# EAGLE library part SN74V293 (library epic)
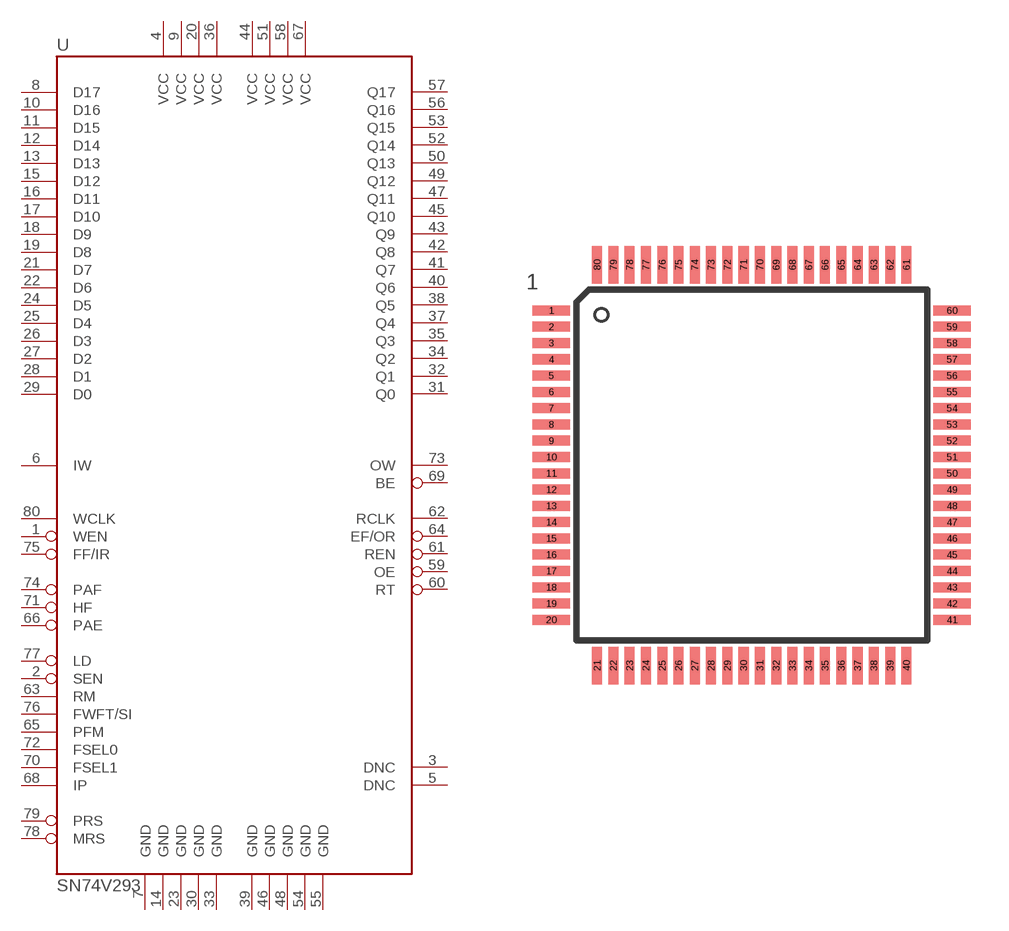
[diagram p6: symbol with the pads of TQFP-80-0.65MM; footprint TQFP-80-0.65MM]

Designator prefix U

## SN74V293  [TQFP-80-0.65MM]
1  WEN  in
2  SEN  in
3  DNC  nc
4  VCC  pas
5  DNC  nc
6  IW  in
7  GND  pwr
8  D17  pas
9  VCC  pas
10  D16  pas
11  D15  pas
12  D14  pas
13  D13  pas
14  GND  pwr
15  D12  pas
16  D11  pas
17  D10  pas
18  D9  pas
19  D8  pas
20  VCC  pas
21  D7  pas
22  D6  pas
23  GND  pwr
24  D5  pas
25  D4  pas
26  D3  pas
27  D2  pas
28  D1  pas
29  D0  pas
30  GND  pwr
31  Q0  out
32  Q1  out
33  GND  pwr
34  Q2  out
35  Q3  out
36  VCC  pas
37  Q4  out
38  Q5  out
39  GND  pwr
40  Q6  out
41  Q7  out
42  Q8  out
43  Q9  out
44  VCC  pas
45  Q10  out
46  GND  pwr
47  Q11  out
48  GND  pwr
49  Q12  out
50  Q13  out
51  VCC  pas
52  Q14  out
53  Q15  out
54  GND  pwr
55  GND  pwr
56  Q16  out
57  Q17  out
58  VCC  pas
59  OE  in
60  RT  in
61  REN  in
62  RCLK  in
63  RM  in
64  EF/OR  out
65  PFM  in
66  PAE  out
67  VCC  pas
68  IP  in
69  BE  in
70  FSEL1  in
71  HF  out
72  FSEL0  in
73  OW  in
74  PAF  out
75  FF/IR  out
76  FWFT/SI  in
77  LD  in
78  MRS  in
79  PRS  in
80  WCLK  in

## Footprint TQFP-80-0.65MM (pad centres in mm)
Thin Quad Flat Pack, 0.65 mm lead pitch
smd 1.5 x 0.4: 1 -8,6.175; 2 -8,5.525; 3 -8,4.875; 4 -8,4.225; 5 -8,3.575; 6 -8,2.925; 7 -8,2.275; 8 -8,1.625; 9 -8,0.975; 10 -8,0.325; 11 -8,-0.325; 12 -8,-0.975; 13 -8,-1.625; 14 -8,-2.275; 15 -8,-2.925; 16 -8,-3.575; 17 -8,-4.225; 18 -8,-4.875; 19 -8,-5.525; 20 -8,-6.175; 41 8,-6.175; 42 8,-5.525; 43 8,-4.875; 44 8,-4.225; 45 8,-3.575; 46 8,-2.925; 47 8,-2.275; 48 8,-1.625; 49 8,-0.975; 50 8,-0.325; 51 8,0.325; 52 8,0.975; 53 8,1.625; 54 8,2.275; 55 8,2.925; 56 8,3.575; 57 8,4.225; 58 8,4.875; 59 8,5.525; 60 8,6.175
smd 0.4 x 1.5: 21 -6.175,-8; 22 -5.525,-8; 23 -4.875,-8; 24 -4.225,-8; 25 -3.575,-8; 26 -2.925,-8; 27 -2.275,-8; 28 -1.625,-8; 29 -0.975,-8; 30 -0.325,-8; 31 0.325,-8; 32 0.975,-8; 33 1.625,-8; 34 2.275,-8; 35 2.925,-8; 36 3.575,-8; 37 4.225,-8; 38 4.875,-8; 39 5.525,-8; 40 6.175,-8; 61 6.175,8; 62 5.525,8; 63 4.875,8; 64 4.225,8; 65 3.575,8; 66 2.925,8; 67 2.275,8; 68 1.625,8; 69 0.975,8; 70 0.325,8; 71 -0.325,8; 72 -0.975,8; 73 -1.625,8; 74 -2.275,8; 75 -2.925,8; 76 -3.575,8; 77 -4.225,8; 78 -4.875,8; 79 -5.525,8; 80 -6.175,8